# Altium integrated library Cirrus.IntLib: 1 symbol
Pins are listed as number, name and electrical type; pins without a type are passive.

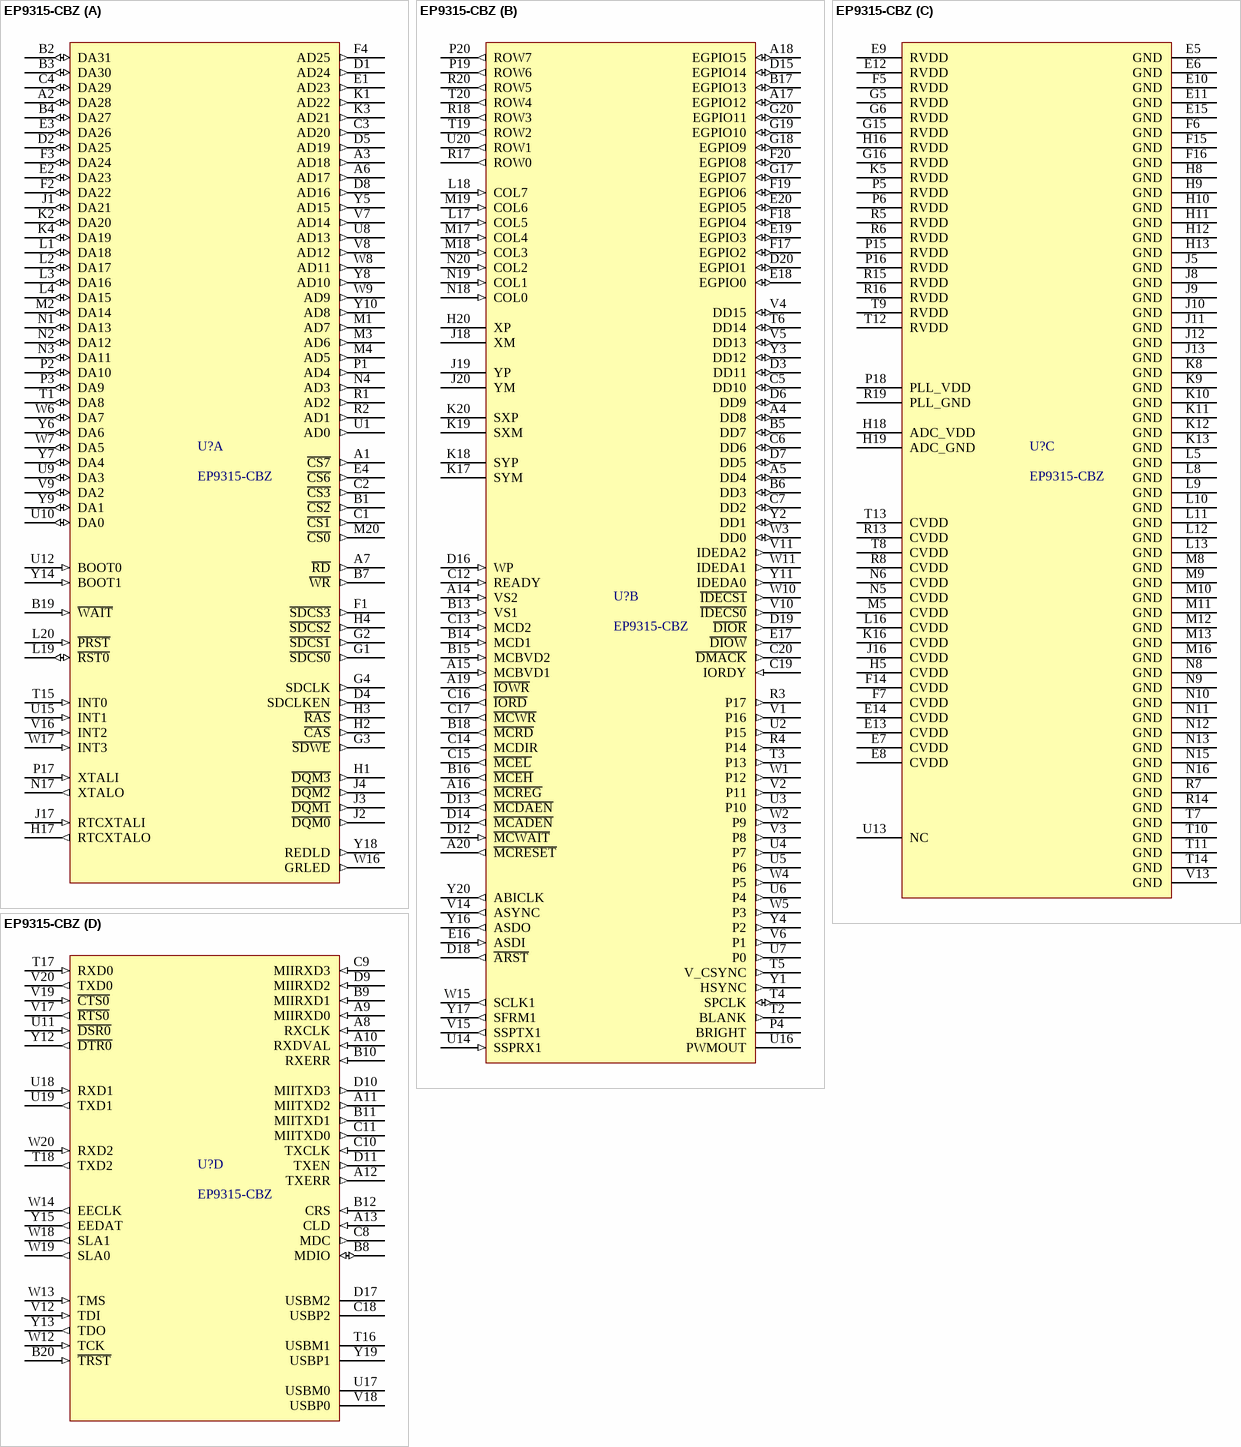
[diagram p0: symbol EP9315-CBZ]

## EP9315-CBZ
designator U?
32 Bit ARM920T Microcontroller with inegrated graphics, IDE, PCMCIA, Ethernet
footprint BGA352x20 (352-Ball PBGA 1,27mm)
signal-integrity model ep9315 (Model Description)
part A pins: A1 ~{CS7} (out), A2 DA28 (io), A3 AD18 (out), A6 AD17 (out), A7 ~{RD} (out), B1 ~{CS2} (out), B2 DA31 (io), B3 DA30 (io), B4 DA27 (io), B7 ~{WR} (out), B19 ~{WAIT} (in), C1 ~{CS1} (out), C2 ~{CS3} (out), C3 AD20 (out), C4 DA29 (io), D1 AD24 (out), D2 DA25 (io), D4 SDCLKEN (out), D5 AD19 (out), D8 AD16 (out), E1 AD23 (out), E2 DA23 (io), E3 DA26 (io), E4 ~{CS6} (out), F1 ~{SDCS3} (out), F2 DA22 (io), F3 DA24 (io), F4 AD25 (out), G1 ~{SDCS0} (out), G2 ~{SDCS1} (out), G3 ~{SDWE} (out), G4 SDCLK (out), H1 ~{DQM3} (out), H2 ~{CAS} (out), H3 ~{RAS} (out), H4 ~{SDCS2} (out), H17 RTCXTALO (out), J1 DA21 (io), J2 ~{DQM0} (out), J3 ~{DQM1} (out), J4 ~{DQM2} (out), J17 RTCXTALI (in), K1 AD22 (out), K2 DA20 (io), K3 AD21 (out), K4 DA19 (io), L1 DA18 (io), L2 DA17 (io), L3 DA16 (io), L4 DA15 (io), L19 ~{RST0} (io), L20 ~{PRST} (in), M1 AD7 (out), M2 DA14 (io), M3 AD6 (out), M4 AD5 (out), M20 ~{CS0} (out), N1 DA13 (io), N2 DA12 (io), N3 DA11 (io), N4 AD3 (out), N17 XTALO (out), P1 AD4 (out), P2 DA10 (io), P3 DA9 (io), P17 XTALI (in), R1 AD2 (out), R2 AD1 (out), T1 DA8 (io), T15 INT0 (in), U1 AD0 (out), U8 AD13 (out), U9 DA3 (io), U10 DA0 (io), U12 BOOT0 (in), U15 INT1 (in), V7 AD14 (out), V8 AD12 (out), V9 DA2 (io), V16 INT2 (in), W6 DA7 (io), W7 DA5 (io), W8 AD11 (out), W9 AD9 (out), W16 GRLED (out), W17 INT3 (in), Y5 AD15 (out), Y6 DA6 (io), Y7 DA4 (io), Y8 AD10 (out), Y9 DA1 (io), Y10 AD8 (out), Y14 BOOT1 (in), Y18 REDLD (out)
part B pins: A4 DD8 (io), A5 DD4 (io), A14 VS2 (in), A15 MCBVD1 (in), A16 ~{MCREG} (out), A17 EGPIO12 (io), A18 EGPIO15 (io), A19 ~{IOWR} (out), A20 ~{MCRESET} (out), B5 DD7 (io), B6 DD3 (io), B13 VS1 (in), B14 MCD1 (in), B15 MCBVD2 (in), B16 ~{MCEH} (out), B17 EGPIO13 (io), B18 ~{MCRD} (out), C5 DD10 (io), C6 DD6 (io), C7 DD2 (io), C12 READY (in), C13 MCD2 (in), C14 MCDIR (out), C15 ~{MCEL} (out), C16 ~{IORD} (out), C17 ~{MCWR} (out), C19 IORDY (in), C20 ~{DMACK} (out), D3 DD11 (io), D6 DD9 (io), D7 DD5 (io), D12 ~{MCWAIT} (in), D13 ~{MCDAEN} (out), D14 ~{MCADEN} (out), D15 EGPIO14 (io), D16 WP (in), D18 ~{ARST} (out), D19 ~{DIOR} (out), D20 EGPIO1 (io), E16 ASDI (in), E17 ~{DIOW} (out), E18 EGPIO0 (io), E19 EGPIO3 (io), E20 EGPIO5 (io), F17 EGPIO2 (io), F18 EGPIO4 (io), F19 EGPIO6 (io), F20 EGPIO8 (io), G17 EGPIO7 (io), G18 EGPIO9 (io), G19 EGPIO10 (io), G20 EGPIO11 (io), H20 XP, J18 XM, J19 YP, J20 YM, K17 SYM, K18 SYP, K19 SXM, K20 SXP, L17 COL5 (in), L18 COL7 (in), M17 COL4 (in), M18 COL3 (in), M19 COL6 (in), N18 COL0 (in), N19 COL1 (in), N20 COL2 (in), P4 BRIGHT, P19 ROW6 (out), P20 ROW7 (out), R3 P17 (out), R4 P14 (out), R17 ROW0 (out), R18 ROW3 (out), R20 ROW5 (out), T2 BLANK (out), T3 P13 (out), T4 SPCLK (io), T5 V_CSYNC (out), T6 DD14 (io), T19 ROW2 (out), T20 ROW4 (out), U2 P15 (out), U3 P10 (out), U4 P7 (out), U5 P6 (out), U6 P4 (out), U7 P0 (out), U14 SSPRX1 (in), U16 PWMOUT, U20 ROW1 (out), V1 P16 (out), V2 P11 (out), V3 P8 (out), V4 DD15 (io), V5 DD13 (io), V6 P1 (out), V10 ~{IDECS0} (out), V11 IDEDA2 (out), V14 ASYNC (out), V15 SSPTX1 (out), W1 P12 (out), W2 P9 (out), W3 DD0 (io), W4 P5 (out), W5 P3 (out), W10 ~{IDECS1} (out), W11 IDEDA1 (out), W15 SCLK1 (out), Y1 HSYNC (out), Y2 DD1 (io), Y3 DD12 (io), Y4 P2 (out), Y11 IDEDA0 (out), Y16 ASDO (out), Y17 SFRM1 (out), Y20 ABICLK (out)
part C pins: E5 GND (power), E6 GND (power), E7 CVDD (power), E8 CVDD (power), E9 RVDD (power), E10 GND (power), E11 GND (power), E12 RVDD (power), E13 CVDD (power), E14 CVDD (power), E15 GND (power), F5 RVDD (power), F6 GND (power), F7 CVDD (power), F14 CVDD (power), F15 GND (power), F16 GND (power), G5 RVDD (power), G6 RVDD (power), G15 RVDD (power), G16 RVDD (power), H5 CVDD (power), H8 GND (power), H9 GND (power), H10 GND (power), H11 GND (power), H12 GND (power), H13 GND (power), H16 RVDD (power), H18 ADC_VDD (power), H19 ADC_GND (power), J5 GND (power), J8 GND (power), J9 GND (power), J10 GND (power), J11 GND (power), J12 GND (power), J13 GND (power), J16 CVDD (power), K5 RVDD (power), K8 GND (power), K9 GND (power), K10 GND (power), K11 GND (power), K12 GND (power), K13 GND (power), K16 CVDD (power), L5 GND (power), L8 GND (power), L9 GND (power), L10 GND (power), L11 GND (power), L12 GND (power), L13 GND (power), L16 CVDD (power), M5 CVDD (power), M8 GND (power), M9 GND (power), M10 GND (power), M11 GND (power), M12 GND (power), M13 GND (power), M16 GND (power), N5 CVDD (power), N6 CVDD (power), N8 GND (power), N9 GND (power), N10 GND (power), N11 GND (power), N12 GND (power), N13 GND (power), N15 GND (power), N16 GND (power), P5 RVDD (power), P6 RVDD (power), P15 RVDD (power), P16 RVDD (power), P18 PLL_VDD (power), R5 RVDD (power), R6 RVDD (power), R7 GND (power), R8 CVDD (power), R13 CVDD (power), R14 GND (power), R15 RVDD (power), R16 RVDD (power), R19 PLL_GND (power), T7 GND (power), T8 CVDD (power), T9 RVDD (power), T10 GND (power), T11 GND (power), T12 RVDD (power), T13 CVDD (power), T14 GND (power), U13 NC, V13 GND (power)
part D pins: A8 RXCLK (in), A9 MIIRXD0 (in), A10 RXDVAL (in), A11 MIITXD2 (out), A12 TXERR (out), A13 CLD (in), B8 MDIO (io), B9 MIIRXD1 (in), B10 RXERR (in), B11 MIITXD1 (out), B12 CRS (in), B20 ~{TRST} (in), C8 MDC (out), C9 MIIRXD3 (in), C10 TXCLK (in), C11 MIITXD0 (out), C18 USBP2, D9 MIIRXD2 (in), D10 MIITXD3 (out), D11 TXEN (out), D17 USBM2, T16 USBM1, T17 RXD0 (in), T18 TXD2 (out), U11 ~{DSR0} (in), U17 USBM0, U18 RXD1 (in), U19 TXD1 (out), V12 TDI (in), V17 ~{RTS0} (out), V18 USBP0, V19 ~{CTS0} (in), V20 TXD0 (out), W12 TCK (in), W13 TMS (in), W14 EECLK (out), W18 SLA1 (out), W19 SLA0 (out), W20 RXD2 (in), Y12 ~{DTR0} (out), Y13 TDO (out), Y15 EEDAT (out), Y19 USBP1